# EAGLE library part PIC16F716-SO (library microchip_PIC16F716)
PIC16F716 in SO-20W package
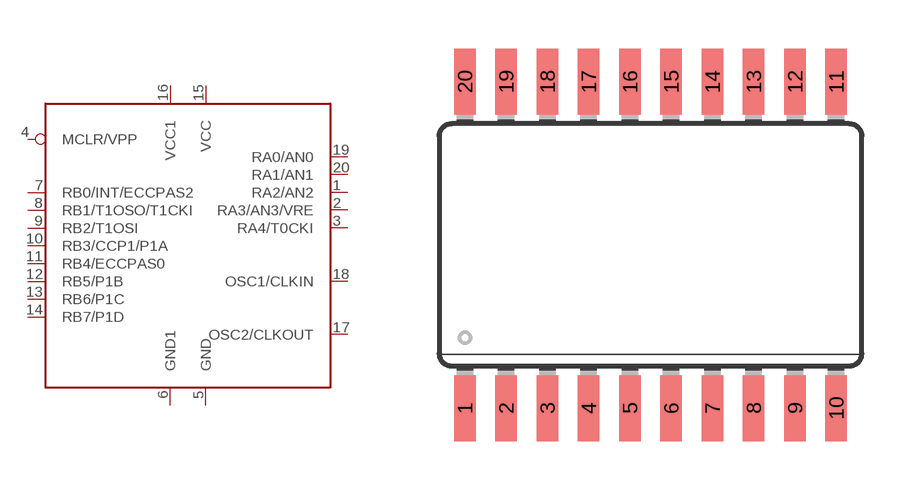
[diagram p1: symbol with the pads of SO-20W; footprint SO-20W]

Designator prefix IC

## PIC16F716-SO  [SO-20W]
1  RA2/AN2  pas
2  RA3/AN3/VRE  pas
3  RA4/T0CKI  pas
4  MCLR/VPP  pas
5  GND  pas
6  GND1  pas
7  RB0/INT/ECCPAS2  pas
8  RB1/T1OSO/T1CKI  pas
9  RB2/T1OSI  pas
10  RB3/CCP1/P1A  pas
11  RB4/ECCPAS0  pas
12  RB5/P1B  pas
13  RB6/P1C  pas
14  RB7/P1D  pas
15  VCC  pas
16  VCC1  pas
17  OSC2/CLKOUT  pas
18  OSC1/CLKIN  pas
19  RA0/AN0  pas
20  RA1/AN1  pas

## Footprint SO-20W (pad centres in mm)
SO-20W package
smd 0.66 x 2.032: 1 0,0.051; 2 1.27,0.051; 3 2.54,0.051; 4 3.81,0.051; 5 5.08,0.051; 6 6.35,0.051; 7 7.62,0.051; 8 8.89,0.051; 9 10.16,0.051; 10 11.43,0.051; 11 11.43,10.109; 12 10.16,10.109; 13 8.89,10.109; 14 7.62,10.109; 15 6.35,10.109; 16 5.08,10.109; 17 3.81,10.109; 18 2.54,10.109; 19 1.27,10.109; 20 0,10.109